# Altium schematic symbol library HR911105A.SchLib: 1 symbol
Pins are listed as number, name and electrical type; pins without a type are passive.

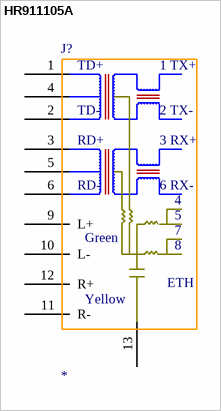
[diagram p0: symbol HR911105A]

## HR911105A
designator J?
footprint HR911105A
pins: 1, 2, 3, 4, 5, 6, 9 L+, 10 L-, 11 R-, 12 R+, 13
2 alternate drawings of the same symbol
text: TD+; 1 TX+; TD-; 2 TX-; RD+; 3 RX+; RD-; 6 RX-; 7; Green; 8; ETH; Yellow